# EAGLE library part HEADER-2X10 (library EagleLibrary)
Header
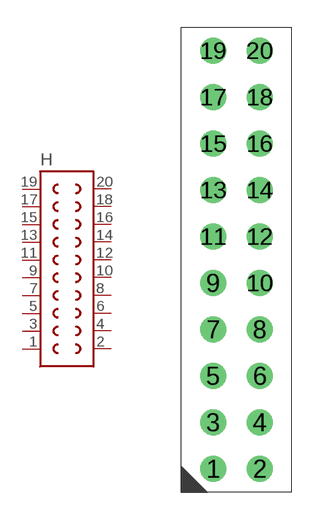
[diagram p15: symbol with the pads of HEADER-2X10; footprint HEADER-2X10]

Designator prefix H

## HEADER-2X10  [HEADER-2X10]
1  1
2  2
3  3
4  4
5  5
6  6
7  7
8  8
9  9
10  10
11  11
12  12
13  13
14  14
15  15
16  16
17  17
18  18
19  19
20  20

## Footprint HEADER-2X10 (pad centres in mm)
FEMALE HEADER
drill 0.914: 1 1.73,-24.13; 2 4.27,-24.13; 3 1.73,-21.59; 4 4.27,-21.59; 5 1.73,-19.05; 6 4.27,-19.05; 7 1.73,-16.51; 8 4.27,-16.51; 9 1.73,-13.97; 10 4.27,-13.97; 11 1.73,-11.43; 12 4.27,-11.43; 13 1.73,-8.89; 14 4.27,-8.89; 15 1.73,-6.35; 16 4.27,-6.35; 17 1.73,-3.81; 18 4.27,-3.81; 19 1.73,-1.27; 20 4.27,-1.27